# Altium footprint library PCB - CONNECTOR - MOLEX - MOLEX 1042391430.PcbLib: 1 footprints
Each footprint in its own frame and in the unit in brackets; x right, y up, seen from the top. Pads: shape width x height; smd on the part's side, far side on the other; paste and mask are expansions set on the pad; w line width, h text height; cw(c..) or ccw(c..) is an arc to the next point about the centre after c.
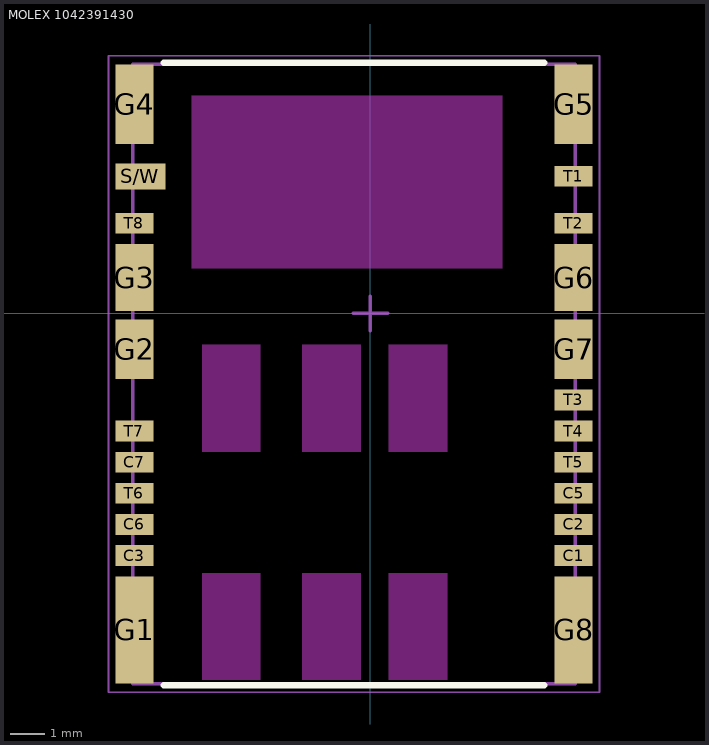
[diagram p0: the footprint, top view; thin cyan lines are the x and y axes]

## MOLEX 1042391430 [mm] "15 (14 + 1) Position Card Connector Combo - microSD™, NANO SIM Surface Mount, Right Angle Gold or Gold-Palladium"
height 2.05
pads (23):
  rect 1.1x0.6 smd: C1(5.875,-7) C2(5.875,-6.1) C3(-6.825,-7) C5(5.875,-5.2) C6(-6.825,-6.1) C7(-6.825,-4.3) T1(5.875,3.965) T2(5.875,2.61) T3(5.875,-2.5) T4(5.875,-3.4) T5(5.875,-4.3) T6(-6.825,-5.2) T7(-6.825,-3.4) T8(-6.825,2.61)
  rect 1.1x3.1 smd: G1(-6.825,-9.15) G8(5.875,-9.15)
  rect 1.1x1.72 smd: G2(-6.825,-1.04) G7(5.875,-1.04)
  rect 1.1x1.94 smd: G3(-6.825,1.04) G6(5.875,1.04)
  rect 1.1x2.3 smd: G4(-6.825,6.05) G5(5.875,6.05)
  rect 1.45x0.75 smd: S/W(-6.65,3.965)
Top Layer keep-out:
  rectangle: 0.525,-10.6 2.225,-7.5
  rectangle: -1.975,-10.6 -0.275,-7.5
  rectangle: -4.875,-10.6 -3.175,-7.5
  rectangle: 0.525,-4 2.225,-0.9
  rectangle: -1.975,-4 -0.275,-0.9
  rectangle: -4.875,-4 -3.175,-0.9
  rectangle: -5.175,1.3 3.825,6.3
Top Overlay:
  lines w0.2: -5.975,-10.75 5.025,-10.75 ; -5.975,7.25 5.025,7.25
Mechanical 13:
  lines w0.1: -6.875,-10.7 5.925,-10.7 5.925,7.2 -6.875,7.2 -6.875,-10.7
Mechanical 15:
  lines w0.05: -7.575,-10.95 6.625,-10.95 6.625,7.45 -7.575,7.45 -7.575,-10.95
  lines w0.1: -0.5,0 0.5,0 ; 0,-0.5 0,0.5
3D body "Molex - 1042391430.step": height 2.05, standoff 0, extent -6.925,-10.7 5.975,7.2